# EAGLE library part MSP430G2X55_RHA_40 (library TI_MSP430_v16)
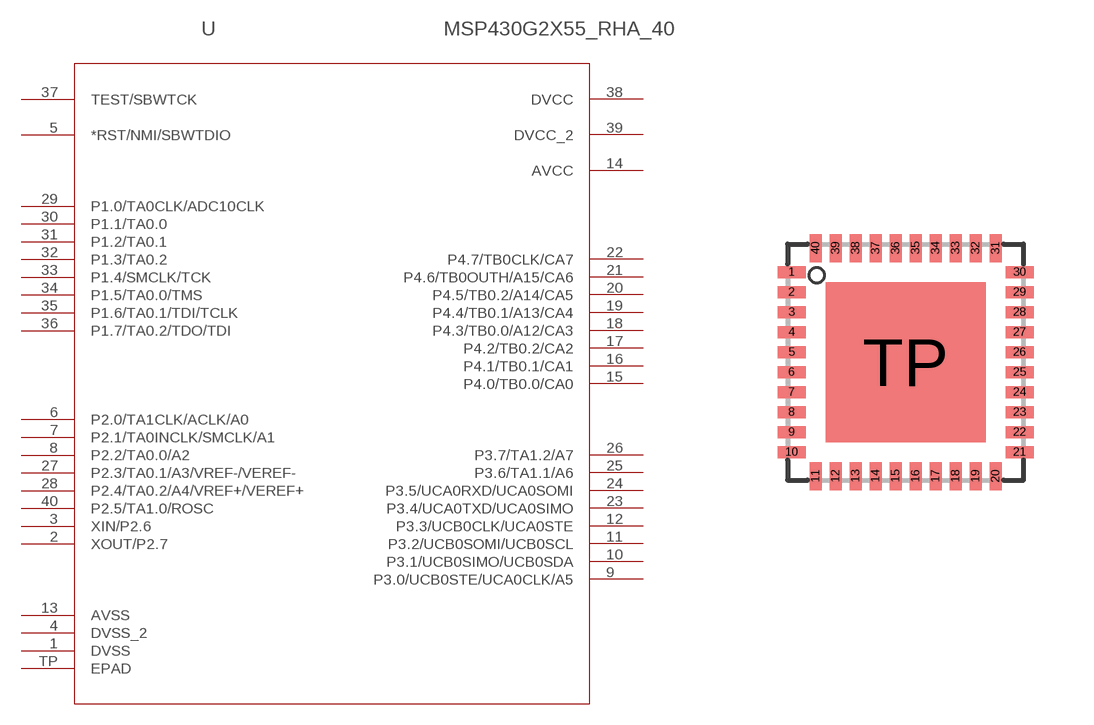
[diagram p147: symbol with the pads of RHA40; footprint RHA40]

Designator prefix -

## MSP430G2X55_RHA_40  [RHA40]
1  DVSS  pwr
2  XOUT/P2.7
3  XIN/P2.6
4  DVSS_2  pwr
5  *RST/NMI/SBWTDIO  in
6  P2.0/TA1CLK/ACLK/A0
7  P2.1/TA0INCLK/SMCLK/A1
8  P2.2/TA0.0/A2
9  P3.0/UCB0STE/UCA0CLK/A5
10  P3.1/UCB0SIMO/UCB0SDA
11  P3.2/UCB0SOMI/UCB0SCL
12  P3.3/UCB0CLK/UCA0STE
13  AVSS  pwr
14  AVCC  pwr
15  P4.0/TB0.0/CA0
16  P4.1/TB0.1/CA1
17  P4.2/TB0.2/CA2
18  P4.3/TB0.0/A12/CA3
19  P4.4/TB0.1/A13/CA4
20  P4.5/TB0.2/A14/CA5
21  P4.6/TB0OUTH/A15/CA6
22  P4.7/TB0CLK/CA7
23  P3.4/UCA0TXD/UCA0SIMO
24  P3.5/UCA0RXD/UCA0SOMI
25  P3.6/TA1.1/A6
26  P3.7/TA1.2/A7
27  P2.3/TA0.1/A3/VREF-/VEREF-
28  P2.4/TA0.2/A4/VREF+/VEREF+
29  P1.0/TA0CLK/ADC10CLK
30  P1.1/TA0.0
31  P1.2/TA0.1
32  P1.3/TA0.2
33  P1.4/SMCLK/TCK
34  P1.5/TA0.0/TMS
35  P1.6/TA0.1/TDI/TCLK
36  P1.7/TA0.2/TDO/TDI
37  TEST/SBWTCK  in
38  DVCC  pwr
39  DVCC_2  pwr
40  P2.5/TA1.0/ROSC
TP  EPAD  pas

## Footprint RHA40 (pad centres in mm)
*** TI: RHA *** JEDEC: S-PQFP-N40 *** 40 PINS *** ---> PIN TP (exposed thermal die pad) should be connected with GND
smd 0.7 x 0.3: 1 -2.85,2.25; 2 -2.85,1.75; 3 -2.85,1.25; 4 -2.85,0.75; 5 -2.85,0.25; 6 -2.85,-0.25; 7 -2.85,-0.75; 8 -2.85,-1.25; 9 -2.85,-1.75; 10 -2.85,-2.25; 21 2.85,-2.25; 22 2.85,-1.75; 23 2.85,-1.25; 24 2.85,-0.75; 25 2.85,-0.25; 26 2.85,0.25; 27 2.85,0.75; 28 2.85,1.25; 29 2.85,1.75; 30 2.85,2.25
smd 0.3 x 0.7: 11 -2.25,-2.85; 12 -1.75,-2.85; 13 -1.25,-2.85; 14 -0.75,-2.85; 15 -0.25,-2.85; 16 0.25,-2.85; 17 0.75,-2.85; 18 1.25,-2.85; 19 1.75,-2.85; 20 2.25,-2.85; 31 2.25,2.85; 32 1.75,2.85; 33 1.25,2.85; 34 0.75,2.85; 35 0.25,2.85; 36 -0.25,2.85; 37 -0.75,2.85; 38 -1.25,2.85; 39 -1.75,2.85; 40 -2.25,2.85
smd 4 x 4: TP 0,0